# Altium footprint library LIPO-CHARGING_8.4V_10DFN.PcbLib: 1 footprints
Each footprint in its own frame and in the unit in brackets; x right, y up, seen from the top. Pads: shape width x height; smd on the part's side, far side on the other; paste and mask are expansions set on the pad; w line width, h text height; cw(c..) or ccw(c..) is an arc to the next point about the centre after c.
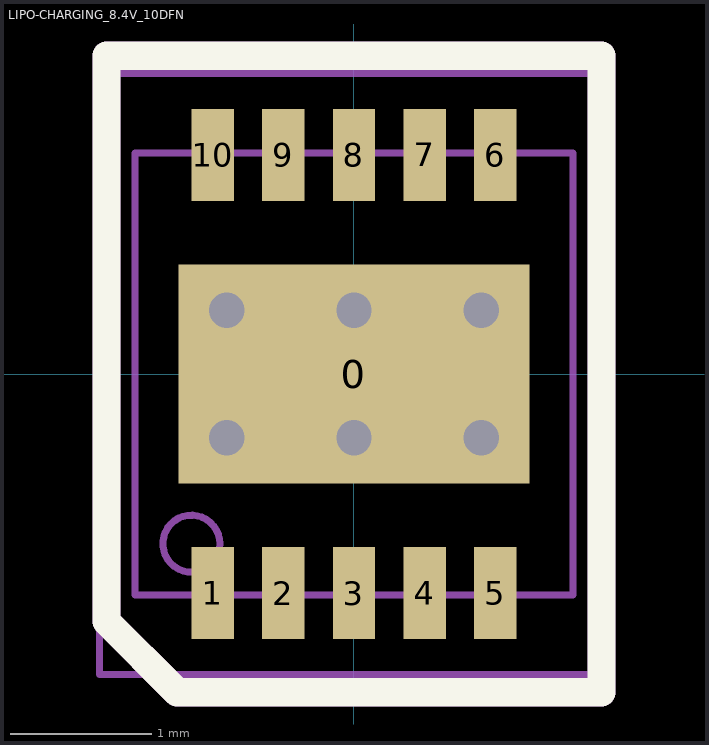
[diagram p0: the footprint, top view; thin cyan lines are the x and y axes]

## LIPO-CHARGING_8.4V_10DFN [mm] "dual lip charging IC 8.4V 10DFN"
height 0.9
pads (11):
  rect 2.48x1.55 smd: 0(0,0)
  rect 0.3x0.65 smd mask+0.05: 1(-1,-1.55) 2(-0.5,-1.55) 3(0,-1.55) 4(0.5,-1.55) 5(1,-1.55) 6(1,1.55) 7(0.5,1.55) 8(0,1.55) 9(-0.5,1.55) 10(-1,1.55)
via -0.9,0.45 diameter 0.5 hole 0.25
via 0,0.45 diameter 0.5 hole 0.25
via 0.9,0.45 diameter 0.5 hole 0.25
via 0.9,-0.45 diameter 0.5 hole 0.25
via 0,-0.45 diameter 0.5 hole 0.25
via -0.9,-0.45 diameter 0.5 hole 0.25
Top Overlay:
  lines w0.2: -1.75,-1.75 -1.75,2.25 1.75,2.25 1.75,-2.25 -1.25,-2.25 -1.75,-1.75
Top Assembly:
  circle w0.05: c-1.15,-1.2 r0.202
  lines w0.05: -1.55,-1.563 1.55,-1.563 1.55,1.563 -1.55,1.563 -1.55,-1.563
  text ".Designator" at -0.996,-0.257 h1.27
Top Courtyard:
  lines w0.05: -1.8,-2.125 1.8,-2.125 1.8,2.125 -1.8,2.125 -1.8,-2.125
  lines w0.1: -0.5,0 0.5,0 ; 0,-0.5 0,0.5
Mechanical 29:
  lines w0.2: -1.75,-1.75 -1.75,2.25 1.75,2.25 1.75,-2.25 -1.25,-2.25 -1.75,-1.75
  text ".Designator" at -1.1,-0.106 h0.5
3D body "LIPO-CHARGING_8.4V_10DFN.STEP": height 0.81, standoff 0.01, extent -1.55,-1.56 1.55,1.56